# EAGLE library part MAX1978 (library ic)
MAX1978: Peltier controller (Maxim) Temperature controller for Peltier modules 5V, ±3A Iout, ±1mK dT
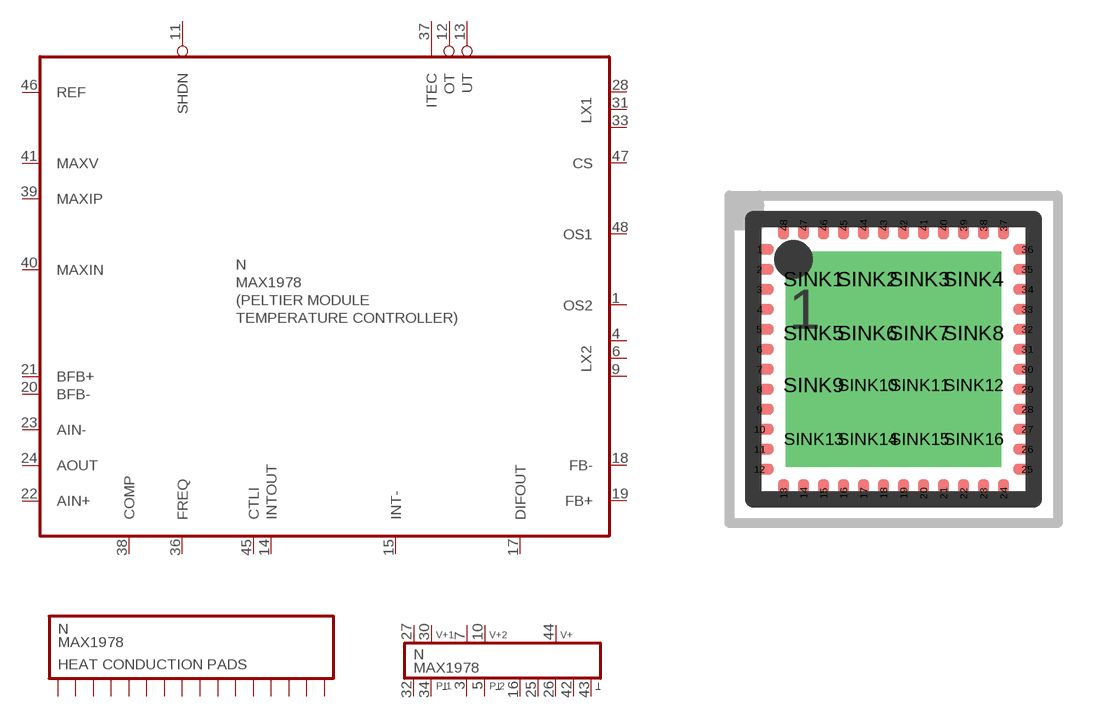
[diagram p54: symbol with the pads of QFNEP48; footprint QFNEP48]

Designator prefix N; gates  =MAX1978 HS=MAX1978SINK P=V+-MAX1978

## MAX1978  [QFNEP48]
1   :OS2  in
3  P:PGND2  pwr
4   :LX2  out
5  P:PGND2  pwr
6   :LX2  pas
7  P:PVDD2  pwr
9   :LX2  pas
10  P:PVDD2  pwr
11   :SHDN  in
12   :OT  out
13   :UT  out
14   :INTOUT  out
15   :INT-  in
16  P:GND  pwr
17   :DIFOUT  out
18   :FB-  in
19   :FB+  in
20   :BFB-  out
21   :BFB+  out
22   :AIN+  in
23   :AIN-  in
24   :AOUT  in
25  P:GND  pwr
26  P:GND  pwr
27  P:PVDD1  pwr
28   :LX1  out
30  P:PVDD1  pwr
31   :LX1  pas
32  P:PGND1  pwr
33   :LX1  pas
34  P:PGND1  pwr
36   :FREQ  in
37   :ITEC  out
38   :COMP  in
39   :MAXIP  in
40   :MAXIN  in
41   :MAXV  in
42  P:GND  pwr
43  P:GND  pwr
44  P:VDD  pwr
45   :CTLI  in
46   :REF  out
47   :CS  in
48   :OS1  in
SINK1  HS:1
SINK2  HS:2
SINK3  HS:3
SINK4  HS:4
SINK5  HS:5
SINK6  HS:6
SINK7  HS:7
SINK8  HS:8
SINK9  HS:9
SINK10  HS:10
SINK11  HS:11
SINK12  HS:12
SINK13  HS:13
SINK14  HS:14
SINK15  HS:15
SINK16  HS:16

## Footprint QFNEP48 (pad centres in mm)
QFN-EP-48, SMD Thin exposed pad package (7*7mm), 48 pins with heat conduction pads
smd 0.7 x 0.27: 1 -3.35,2.75; 2 -3.35,2.25; 3 -3.35,1.75; 4 -3.35,1.25; 5 -3.35,0.75; 6 -3.35,0.25; 7 -3.35,-0.25; 8 -3.35,-0.75; 9 -3.35,-1.25; 10 -3.35,-1.75; 11 -3.35,-2.25; 12 -3.35,-2.75; 25 3.35,-2.75; 26 3.35,-2.25; 27 3.35,-1.75; 28 3.35,-1.25; 29 3.35,-0.75; 30 3.35,-0.25; 31 3.35,0.25; 32 3.35,0.75; 33 3.35,1.25; 34 3.35,1.75; 35 3.35,2.25; 36 3.35,2.75
smd 0.27 x 0.7: 13 -2.75,-3.35; 14 -2.25,-3.35; 15 -1.75,-3.35; 16 -1.25,-3.35; 17 -0.75,-3.35; 18 -0.25,-3.35; 19 0.25,-3.35; 20 0.75,-3.35; 21 1.25,-3.35; 22 1.75,-3.35; 23 2.25,-3.35; 24 2.75,-3.35; 37 2.75,3.35; 38 2.25,3.35; 39 1.75,3.35; 40 1.25,3.35; 41 0.75,3.35; 42 0.25,3.35; 43 -0.25,3.35; 44 -0.75,3.35; 45 -1.25,3.35; 46 -1.75,3.35; 47 -2.25,3.35; 48 -2.75,3.35
drill 0.813 pad 1.397 square: SINK1 -2,2; SINK2 -0.65,2; SINK3 0.65,2; SINK4 2,2; SINK5 -2,0.65; SINK6 -0.65,0.65; SINK7 0.65,0.65; SINK8 2,0.65; SINK9 -2,-0.65; SINK10 -0.65,-0.65; SINK11 0.65,-0.65; SINK12 2,-0.65; SINK13 -2,-2; SINK14 -0.65,-2; SINK15 0.65,-2; SINK16 2,-2